# EAGLE library part IV-6 (library ruark2)
Russian VFD Tube
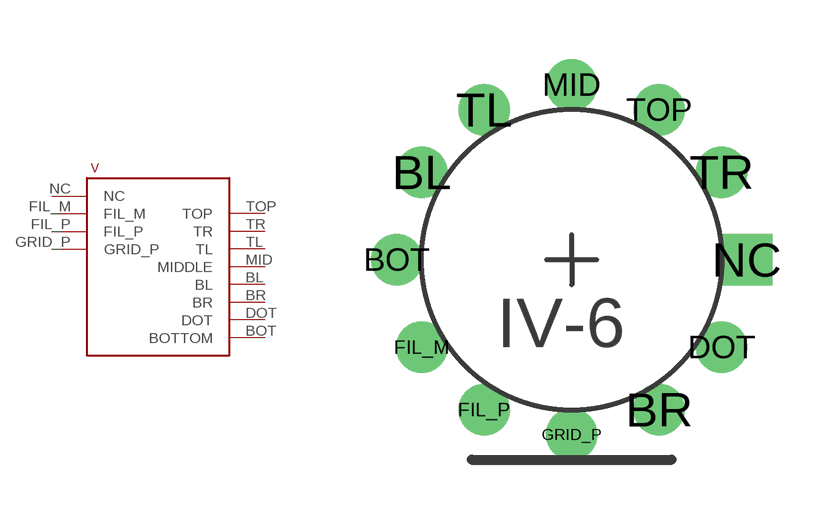
[diagram p19: symbol with the pads of IV-6; footprint IV-6]

Designator prefix V

## IV-6  [IV-6]
BL  BL
BOT  BOTTOM
BR  BR
DOT  DOT
FIL_M  FIL_M
FIL_P  FIL_P
GRID_P  GRID_P
MID  MIDDLE
NC  NC
TL  TL
TOP  TOP
TR  TR

## Footprint IV-6 (pad centres in mm)
drill 0.8: BL -3.81,2.223; BOT -4.445,0; BR 2.223,-3.81; DOT 3.81,-2.223; FIL_M -3.81,-2.223; FIL_P -2.223,-3.81; GRID_P 0,-4.445; MID 0,4.445; TL -2.223,3.81; TOP 2.223,3.81; TR 3.81,2.223
drill 0.8 square: NC 4.445,0